# Altium schematic symbol library sch_battery.SchLib: 1 symbol
Pins are listed as number, name and electrical type; pins without a type are passive.

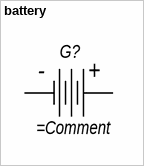
[diagram p0: symbol battery]

## battery
designator G?
pins: 0, 1
text: -; +